# Altium schematic symbol library ToradexMainBoard-V0I1.SCHLIB: 303 symbols (part 5 of 14)
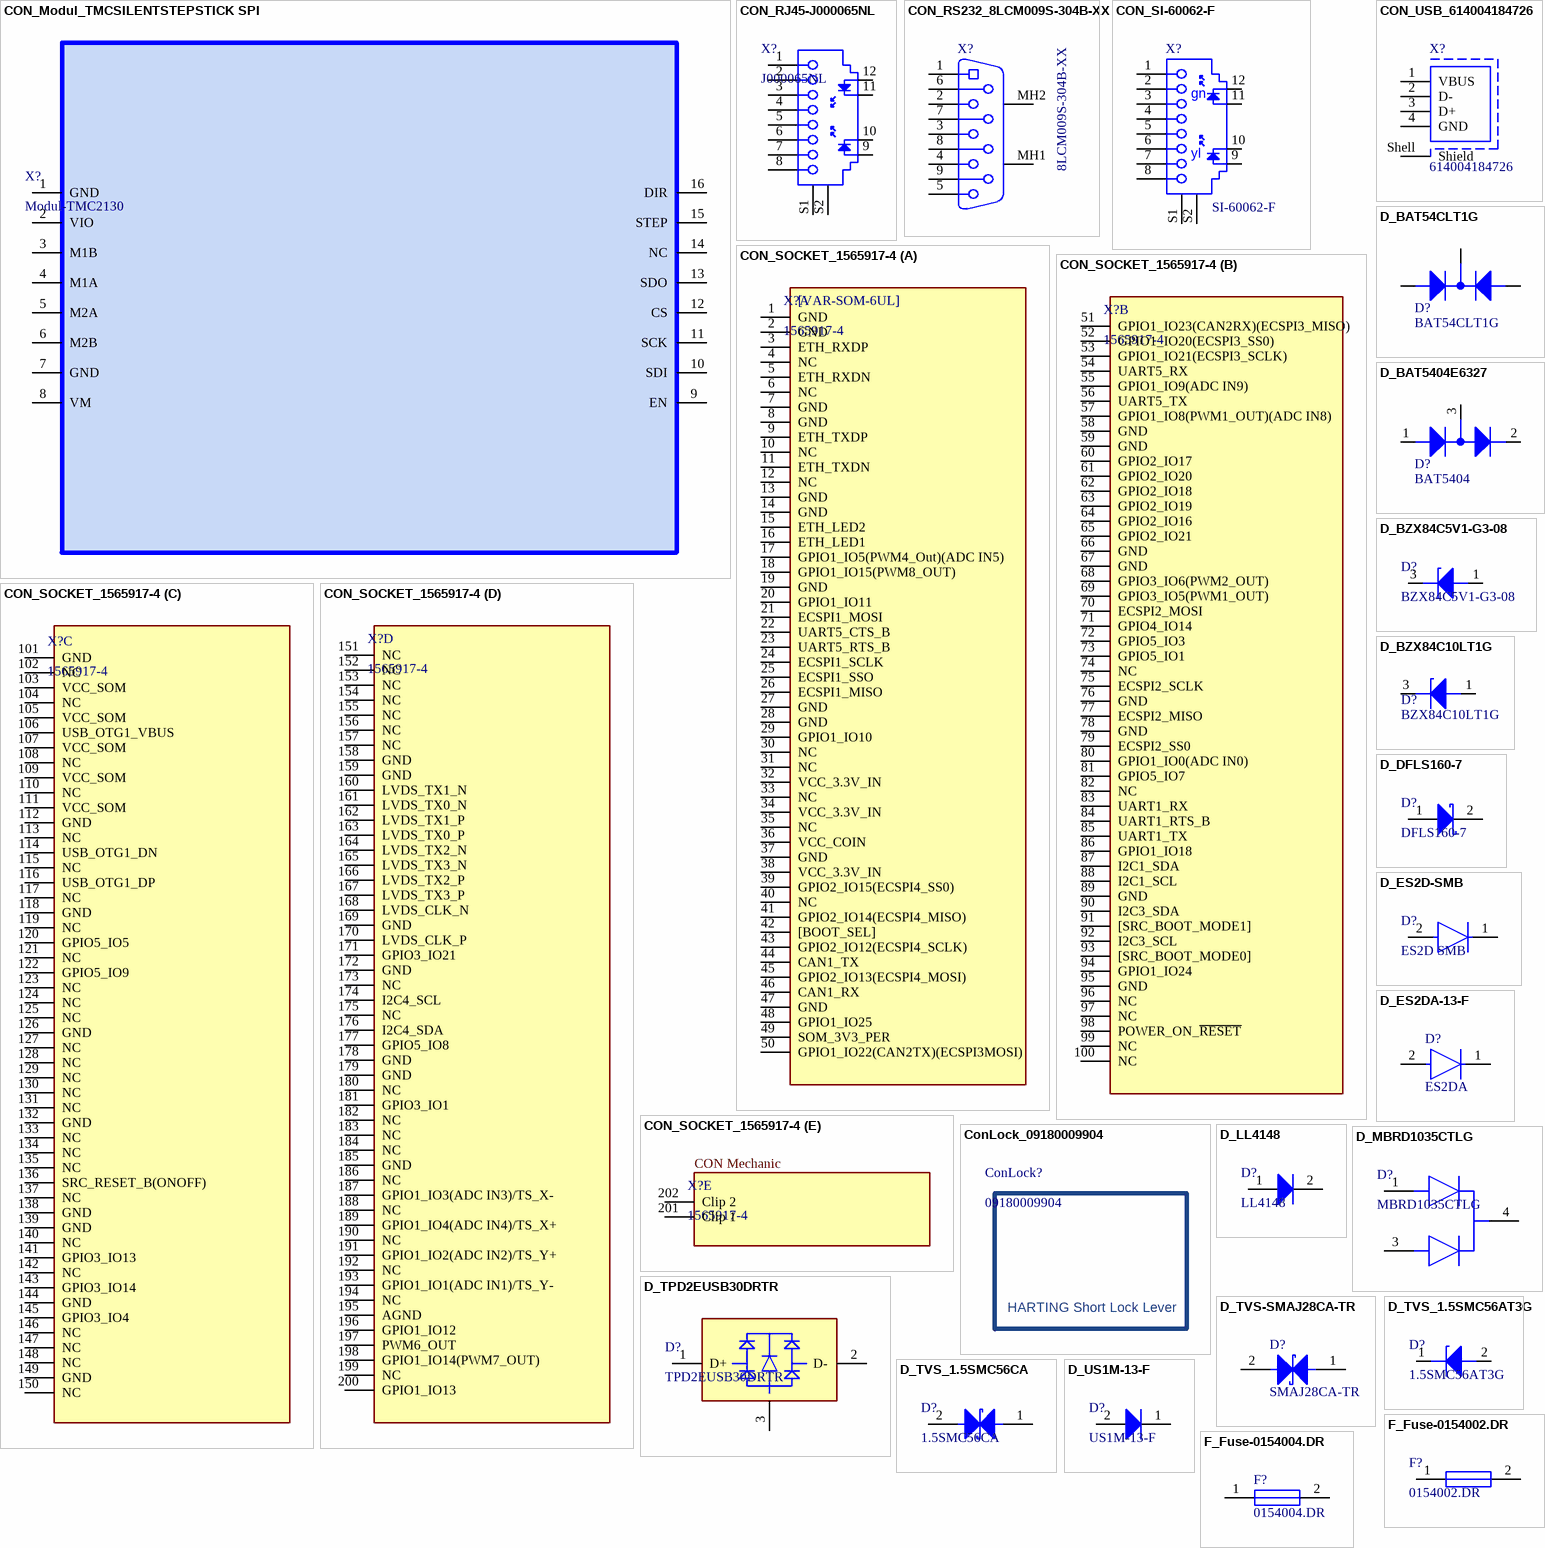
[diagram p19: symbols CON_Modul_TMCSILENTSTEPSTICK SPI to F_Fuse-0154004.DR]

## F_Fuse-0154004.DR
designator F?, comment 0154004.DR
FUSE BRD MNT 4A 125VAC/VDC 2SMD; Manufacturer: Littelfuse; Fuse Blow Speed: Fast; Max Fuse Ac Voltage: 125V; Lead Free: Yes; Device Class L3: unset; Manufacturer Part Number: 0154004.DR; Device Class L2: Fuses; Package: 0154; ComponentLink2Description: Datasheet; Temperature Range Low: -55°C; Temperature Range High: +125°C; Device Class L1: Circuit Protection; Height: 3.81mm; Temperature: -55°C to +125°C; Mouser Description: Surface Mount Fuses Fuseblock w/ fuse 4A OMNI BLOK 154; Automotive: No; Digikey Description: FUSE BRD MNT 4A 125VAC/VDC 2SMD; RoHS: TRUE; Category: Fuse; Fuse Current: 4A; Max Fuse Dc Voltage: 125V; ComponentLink2URL: https://www.littelfuse.com/~/media/electronics/datasheets/fuses/littelfuse_fuse_154_154t_154l_154tl_datasheet.pdf.pdf; Octopart: https://octopart.com/0154004.dr-littelfuse-565861
footprint F_FUSE-154005 (Littlefuse 154005 im Sockel)
pins: 1, 2

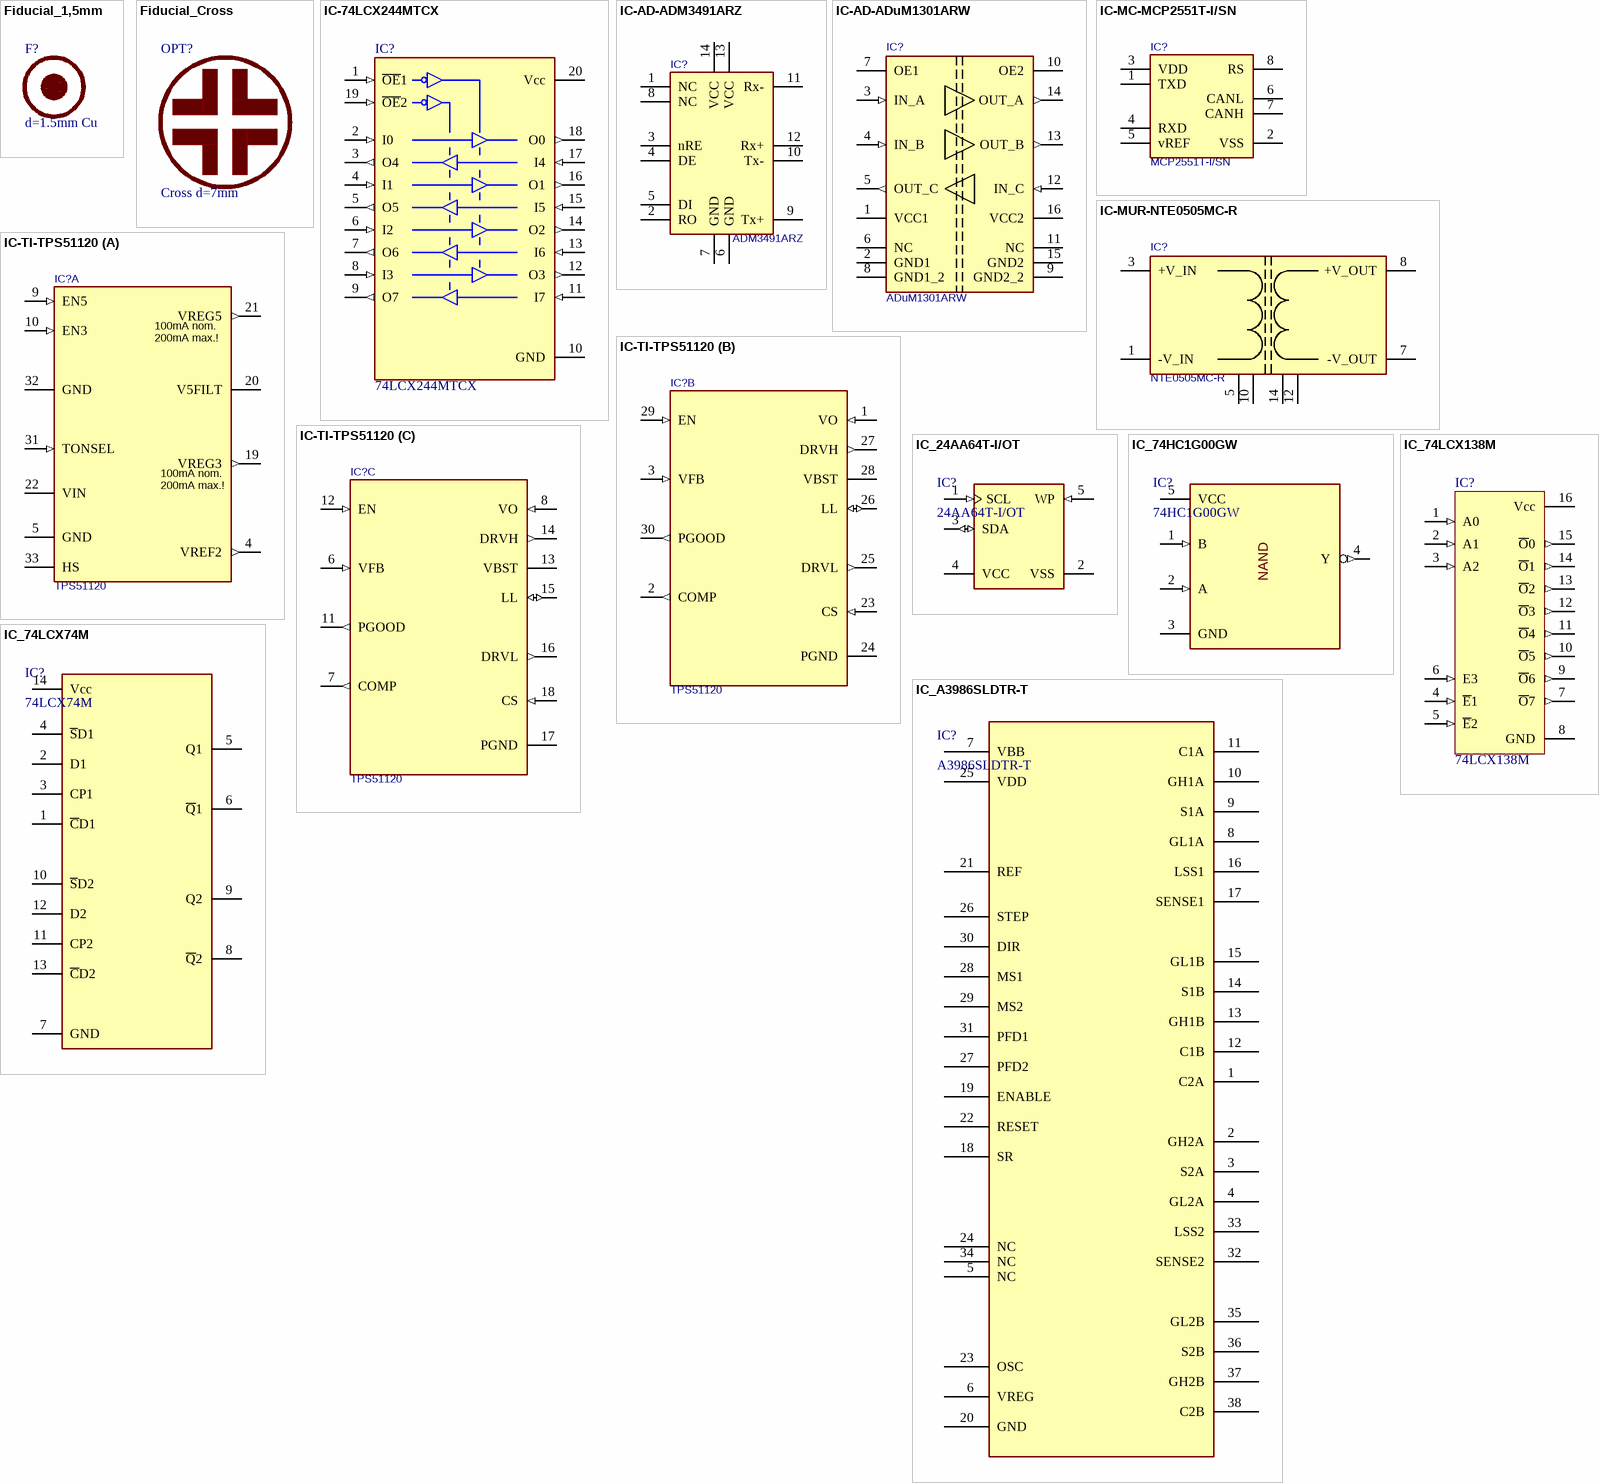
[diagram p7: symbols Fiducial_1,5mm to IC_A3986SLDTR-T]

## Fiducial_1,5mm
designator F?, comment d=1.5mm Cu  (no BOM)
Fiducial Passermarke mit 1.5mm Druchmesser.
footprint Fiducial_1 (d=1.5mm)

## Fiducial_Cross
designator OPT?, comment Cross d=7mm  (no BOM)
Fiducial Cross for Optical alignment.
footprint Fiducial-Cross

## IC-74LCX244MTCX
designator IC?, comment 74LCX244MTCX
IC BUF NON-INVERT 3.6V 20TSSOP; Manufacturer: ON Semiconductor / Fairchild; Min Supply Voltage: 2V; Propagation Delay: 10ns; Logic Function: Buffer,Inverting; High Level Output Current: -24mA; Low Level Output Current: 24mA; Number of Input Lines: 8; Polarity: Non-Inverting; Number of Elements: 2; Number of Bits per Element: 4; Quiescent Current: 10uA; PCBChecked: initials after Checked; Supplier 1: Digi-Key; Manufacturer Part Number: 74LCX244MTCX; RoHS: Yes; Category: Amplifiers - Op Amps, Buffer, Instrumentation; Mount: Surface Mount; Case/Package: TSSOP; Number of Pins: 20; Weight: 0.191g; Contact Plating: Gold; Min Operating Temperature: -40°C; Max Operating Temperature: 85°C; Packaging: Tape and Reel; Package Quantity: 2500; Max Supply Voltage: 3.6V; Number of Output Lines: 8; Number of Bits: 8; Number of Channels: 8; Number of Inputs: 8; Number of Outputs: 8; Turn-On Delay Time: 10ns; Length: 6.5mm; Height: 0.9mm; Width: 4.4mm; Radiation Hardening: No; REACH SVHC: No SVHC; Lead Free: Lead Free; ComponentLink1URL: https://datasheet.ciiva.com/1832/74lcx244-1832336.pdf?src-supplier=Digi-Key; ComponentLink1Description: https://datasheet.ciiva.com/1832/74lcx244-1832336.pdf?src-supplier=Digi-Key; ComponentLink2URL: https://datasheet.ciiva.com/4788/74lcx244-74461-4788000.pdf?src-supplier=Mouser; ComponentLink2Description: https://datasheet.ciiva.com/4788/74lcx244-74461-4788000.pdf?src-supplier=Mouser; ComponentLink3URL: https://datasheet.ciiva.com/34301/869398-34301621.pdf?src-supplier=Jameco; ComponentLink3Description: https://datasheet.ciiva.com/34301/869398-34301621.pdf?src-supplier=Jameco; ComponentLink4URL: https://datasheet.ciiva.com/30475/0900766b80f9a39b-30475003.pdf?src-supplier=RSComponents; ComponentLink4Description: https://datasheet.ciiva.com/30475/0900766b80f9a39b-30475003.pdf?src-supplier=RSComponents; ComponentLink5URL: https://datasheet.ciiva.com/15094/getdatasheetpartid-93942-15094671.pdf?src-supplier=Verical; ComponentLink5Description: https://datasheet.ciiva.com/15094/getdatasheetpartid-93942-15094671.pdf?src-supplier=Verical; ComponentLink6URL: https://datasheet.ciiva.com/1832/74lcx244-1832337.pdf?src-supplier=Digi-Key; ComponentLink6Description: https://datasheet.ciiva.com/1832/74lcx244-1832337.pdf?src-supplier=Digi-Key; ComponentLink7URL: https://datasheet.ciiva.com/7970/1785341-7970981.pdf?src-supplier=Element14; ComponentLink7Description: https://datasheet.ciiva.com/7970/1785341-7970981.pdf?src-supplier=Element14; ComponentLink8URL: https://datasheet.ciiva.com/1832/74lcx244-1832338.pdf?src-supplier=Digi-Key; ComponentLink8Description: https://datasheet.ciiva.com/1832/74lcx244-1832338.pdf?src-supplier=Digi-Key; ComponentLink9URL: https://datasheet.ciiva.com/26228/74lcx244-26228572.pdf?src-supplier=Avnet+Europe; ComponentLink9Description: https://datasheet.ciiva.com/26228/74lcx244-26228572.pdf?src-supplier=Avnet+Europe; ComponentLink10URL: https://datasheet.ciiva.com/16791/74lcx244-16791774.pdf?src-supplier=Future+Electronics; ComponentLink10Description: https://datasheet.ciiva.com/16791/74lcx244-16791774.pdf?src-supplier=Future+Electronics; ComponentLink11URL: https://datasheet.ciiva.com/48702/001251949-da-01-en-ic-buff-dvr-lo-74lcx244mtcx-tssop-20-fsc-48702199.pdf?src-supplier=Conrad; ComponentLink11Description: https://datasheet.ciiva.com/48702/001251949-da-01-en-ic-buff-dvr-lo-74lcx244mtcx-tssop-20-fsc-48702199.pdf?src-supplier=Conrad; Supplier Part Number 1: 74LCX244MTCXCT-ND; Stock 1: 9538; IPC7352C: done; SCHChecked: Initials after checked
footprint 74LCX244MTCX (TSSOP20)
pins: 1 ~{OE}1 (in), 2 I0 (in), 3 O4 (out), 4 I1 (in), 5 O5 (out), 6 I2 (in), 7 O6 (out), 8 I3 (in), 9 O7 (out), 10 GND, 11 I7 (in), 12 O3 (out), 13 I6 (in), 14 O2 (out), 15 I5 (in), 16 O1 (out), 17 I4 (in), 18 O0 (out), 19 ~{OE}2 (in), 20 Vcc

## IC-AD-ADM3491ARZ
designator IC?, comment ADM3491ARZ
Single Transmitter/Receiver RS-422/RS-485 14-Pin SOIC N Tube; Manufacturer Name: Analog Devices; Data Rate: 10Mbps; Operating Supply Voltage: 3.3V; Number of Transmitters: 1; Simplex/Duplex: Full Duplex; Logic Function: Transceiver,Receiver; Nominal Supply Current: 2.2mA; Operating Supply Current: 1uA; Receiver Hysteresis: 50mV; ESD Protection: No; Min Supply Voltage: 3V; Max Supply Voltage: 3.6V; Interface: RS-422,RS-485; Supplier 1: Digi-Key; Supplier Part Number 1: ADM3491ARZ-ND; Manufacturer: Analog Devices; Manufacturer Part Number: ADM3491ARZ; RoHS: Yes; Category: RS-232 / RS-422 / RS-485 Interface ICs; Stock 1: 1903; Case/Package: SOIC; Number of Pins: 14; Weight: 0.011923oz; Contact Plating: Tin,Matte; Min Operating Temperature: -40°C; Max Operating Temperature: 85°C; Package Quantity: 56; Packaging: Rail/Tube; Max Supply Current: 2.2mA; Number of Receivers: 1; Number of Drivers: 1; Number of Transceivers: 1; Number of Channels: 1; Length: 8.75mm; Height: 1.5mm; Width: 4mm; Radiation Hardening: No; Lead Free: Contains Lead; REACH SVHC: No SVHC; ComponentLink1URL: https://datasheet.ciiva.com/1700/adm3483-3485-3488-3490-3491-1700176.pdf?src-supplier=Digi-Key; ComponentLink1Description: https://datasheet.ciiva.com/1700/adm3483-3485-3488-3490-3491-1700176.pdf?src-supplier=Digi-Key; ComponentLink2URL: https://datasheet.ciiva.com/26832/adm3491arz-26832304.pdf?src-supplier=IIIC; ComponentLink2Description: https://datasheet.ciiva.com/26832/adm3491arz-26832304.pdf?src-supplier=IIIC; ComponentLink3URL: https://datasheet.ciiva.com/1147/1519579-1147562.pdf?src-supplier=Element14; ComponentLink3Description: https://datasheet.ciiva.com/1147/1519579-1147562.pdf?src-supplier=Element14; ComponentLink4URL: https://datasheet.ciiva.com/3028/adm3483-3485-3488-3490-3491-3028114.pdf?src-supplier=Avnet; ComponentLink4Description: https://datasheet.ciiva.com/3028/adm3483-3485-3488-3490-3491-3028114.pdf?src-supplier=Avnet; ComponentLink5URL: https://datasheet.ciiva.com/25910/adm3483-3485-3488-3490-3491-25910524.pdf?src-supplier=Avnet+Europe; ComponentLink5Description: https://datasheet.ciiva.com/25910/adm3483-3485-3488-3490-3491-25910524.pdf?src-supplier=Avnet+Europe; Manufacturer Part No.: ADM3491ARZ
footprint SOIC127P600X175-14N (SOIC 14 pin)
pins: 1 NC, 2 RO, 3 nRE, 4 DE, 5 DI, 6 GND, 7 GND, 8 NC, 9 Tx+, 10 Tx-, 11 Rx-, 12 Rx+, 13 VCC, 14 VCC

## IC-AD-ADuM1301ARW
designator IC?, comment ADuM1301ARW
Digital Isolators Digital Triple-CH; Manufacturer Name: Analog Devices; Manufacturer Part Number: ADUM1301ARWZ; Number of Channels: 3; Propagation Delay: 100ns; Min Supply Voltage: 2.7V; Max Supply Voltage: 5.5V; Operating Supply Voltage: 5V; Data Rate: 90Mbps; Channel Type: Unidirectional; Operating Supply Current: 8.2mA; Output Current: 30mA; Isolated Power: No; Pulse Width Distortion (PWD): 40ns; Rise Time: 3ns; Polarity: Bidirectional; Turn-On Delay Time: 32ns; Max Input Current: 10uA; Isolation Voltage: 2.5kV; Supplier 1: Farnell; Supplier Part Number 1: 1226212; Manufacturer: Analog Devices; RoHS: Yes; Category: Interface ICs; Stock 1: 1313; Pricing 1: 1=4,37000, 10=3,52000, 25=3,32000, 50=3,02000, 100=2,72000, 250=2,45000, 500=2,37000, 1000=2,02000 (EUR); Case/Package: SOIC; Number of Pins: 16; Weight: 0.023492oz; Min Operating Temperature: -40°C; Max Operating Temperature: 125°C; Packaging: Rail/Tube; Type: General Purpose; Voltage: 5V; Length: 10.5mm; Width: 7.6mm; Depth: 2.35mm; Lead Free: Contains Lead; REACH SVHC: No SVHC; ComponentLink1URL: https://datasheet.ciiva.com/1147/1610666-1147808.pdf?src-supplier=Element14; ComponentLink1Description: https://datasheet.ciiva.com/1147/1610666-1147808.pdf?src-supplier=Element14; ComponentLink2URL: https://datasheet.ciiva.com/15119/getdatasheetpartid-139593-15119409.pdf?src-supplier=Verical; ComponentLink2Description: https://datasheet.ciiva.com/15119/getdatasheetpartid-139593-15119409.pdf?src-supplier=Verical; ComponentLink3URL: https://datasheet.ciiva.com/19453/1805177-19453928.pdf?src-supplier=Jameco; ComponentLink3Description: https://datasheet.ciiva.com/19453/1805177-19453928.pdf?src-supplier=Jameco; ComponentLink4URL: https://datasheet.ciiva.com/2082/adum1300-1301-2082305.pdf?src-supplier=Digi-Key; ComponentLink4Description: https://datasheet.ciiva.com/2082/adum1300-1301-2082305.pdf?src-supplier=Digi-Key; ComponentLink5URL: https://datasheet.ciiva.com/15367/adum1300-1301-279320-15367740.pdf?src-supplier=Mouser; ComponentLink5Description: https://datasheet.ciiva.com/15367/adum1300-1301-279320-15367740.pdf?src-supplier=Mouser; Manufacturer Part No.: ADuM1301ARW
footprint T_AD_ADuM1300ARW (SOIC _W 16 pin)
pins: 1 VCC1, 2 GND1 (power), 3 IN_A (in), 4 IN_B (in), 5 OUT_C (out), 6 NC, 7 OE1, 8 GND1_2 (power), 9 GND2_2 (power), 10 OE2, 11 NC, 12 IN_C (in), 13 OUT_B (out), 14 OUT_A (out), 15 GND2 (power), 16 VCC2

## IC-MC-MCP2551T-I/SN
designator IC?, comment MCP2551T-I/SN
CAN Interface IC Hi Spd CAN Transceiv; Manufacturer Name: Microchip; Data Rate: 1Mbps; Max Supply Voltage: 5.5V; Min Supply Voltage: 4.5V; Operating Supply Voltage: 5V; Nominal Supply Current: 75mA; Number of Transmit Buffers: 1; Interface: CAN,Serial; Logic Function: Transceiver; Supplier 1: Mouser; Supplier Part Number 1: 579-MCP2551T-I/SN; Manufacturer: Microchip; Manufacturer Part Number: MCP2551T-I/SN; RoHS: Yes; Category: Interface ICs; Stock 1: 34495; Pricing 1: 1=1,02000, 10=1,02000, 25=0,85000, 100=0,82500, 250=0,82500, 500=0,82500 (USD); Mount: Surface Mount; Case/Package: SOIC; Number of Pins: 8; Min Operating Temperature: -40°C; Max Operating Temperature: 85°C; Packaging: Tape and Reel; Number of Receive Buffers: 1; Package Quantity: 3300; Number of Receivers: 1; Max Supply Current: 75mA; Number of Transceivers: 1; Number of Drivers: 1; Length: 4.9mm; Height: 1.5mm; Width: 3.9mm; Radiation Hardening: No; REACH SVHC: No SVHC; Lead Free: Lead Free; ComponentLink1URL: https://datasheet.ciiva.com/1699/21667f-1699938.pdf?src-supplier=Digi-Key; ComponentLink1Description: https://datasheet.ciiva.com/1699/21667f-1699938.pdf?src-supplier=Digi-Key; ComponentLink2URL: https://datasheet.ciiva.com/7650/21667f-7650934.pdf?src-supplier=Element14; ComponentLink2Description: https://datasheet.ciiva.com/7650/21667f-7650934.pdf?src-supplier=Element14; ComponentLink3URL: https://datasheet.ciiva.com/46381/657417-46381830.pdf?src-supplier=Element14; ComponentLink3Description: https://datasheet.ciiva.com/46381/657417-46381830.pdf?src-supplier=Element14; ComponentLink4URL: https://datasheet.ciiva.com/14152/mcp2551-eng-tds-2-14152541.pdf?src-supplier=Distrelec; ComponentLink4Description: https://datasheet.ciiva.com/14152/mcp2551-eng-tds-2-14152541.pdf?src-supplier=Distrelec; ComponentLink5URL: https://datasheet.ciiva.com/16199/filehandler-aspxddocname-en011797-16199501.pdf?src-supplier=Future+Electronics; ComponentLink5Description: https://datasheet.ciiva.com/16199/filehandler-aspxddocname-en011797-16199501.pdf?src-supplier=Future+Electronics; ComponentLink6URL: https://datasheet.ciiva.com/17649/jp011797-17649037.pdf?src-supplier=Avnet+Europe; ComponentLink6Description: https://datasheet.ciiva.com/17649/jp011797-17649037.pdf?src-supplier=Avnet+Europe; Manufacturer Part No.: MCP2551T-I/SN
footprint SOIC127P600X173-8N
pins: 1 TXD, 2 VSS, 3 VDD, 4 RXD, 5 vREF, 6 CANL, 7 CANH, 8 RS

## IC-MUR-NTE0505MC-R
designator IC?, comment NTE0505MC-R
Module DC-DC 1-OUT 5V 0.2A 1W 8-Pin SMD T/R; Manufacturer Name: Murata; Output Current: 200mA; Number of Outputs: 1; Min Input Voltage: 4.5V; Efficiency: 68%; Isolation: Isolated; Isolation Voltage: 1kV; Max Input Voltage: 5.5V; Supplier 1: Farnell; Supplier Part Number 1: 2946813; Manufacturer: Murata; Manufacturer Part Number: NTE0505MC-R; RoHS: Yes; Category: Board Mount Modules; Stock 1: 825; Pricing 1: 1=6,72000, 10=6,67000, 25=6,44000, 100=6,11000, 150=5,71000 (EUR); Mount: Surface Mount; Case/Package: SMD/SMT; Number of Pins: 8; Min Operating Temperature: -40°C; Max Operating Temperature: 85°C; Output Voltage: 5V; Output Power: 1W; Packaging: Tape and Reel; Package Quantity: 1; Nominal Input Voltage: 5V; Max Power Dissipation: 1W; Voltage - Output 1: 5V; Max Output Current: 200mA; Length: 12.7mm; Height: 0.26inch; Width: 0.3inch; Depth: 7.7mm; Radiation Hardening: No; Lead Free: Lead Free; ComponentLink1URL: https://datasheet.ciiva.com/26941/getdatasheetpartid-387882-26941573.pdf?src-supplier=Verical; ComponentLink1Description: https://datasheet.ciiva.com/26941/getdatasheetpartid-387882-26941573.pdf?src-supplier=Verical; ComponentLink2URL: https://datasheet.ciiva.com/3241/kdc-nte-3241461.pdf?src-supplier=Avnet; ComponentLink2Description: https://datasheet.ciiva.com/3241/kdc-nte-3241461.pdf?src-supplier=Avnet; ComponentLink3URL: https://datasheet.ciiva.com/4653/kdc-nte-28292-4653512.pdf?src-supplier=Mouser; ComponentLink3Description: https://datasheet.ciiva.com/4653/kdc-nte-28292-4653512.pdf?src-supplier=Mouser; ComponentLink4URL: https://datasheet.ciiva.com/6226/kdc-nte-6226956.pdf?src-supplier=Digi-Key; ComponentLink4Description: https://datasheet.ciiva.com/6226/kdc-nte-6226956.pdf?src-supplier=Digi-Key; ComponentLink5URL: https://datasheet.ciiva.com/25914/kdc-nte-25914719.pdf?src-supplier=Avnet+Europe; ComponentLink5Description: https://datasheet.ciiva.com/25914/kdc-nte-25914719.pdf?src-supplier=Avnet+Europe; ComponentLink6URL: https://datasheet.ciiva.com/16472/kdc-nte-16472411.pdf?src-supplier=Future+Electronics; ComponentLink6Description: https://datasheet.ciiva.com/16472/kdc-nte-16472411.pdf?src-supplier=Future+Electronics; ComponentLink7URL: https://datasheet.ciiva.com/6220/kdc-nte-6220877.pdf?src-supplier=Digi-Key; ComponentLink7Description: https://datasheet.ciiva.com/6220/kdc-nte-6220877.pdf?src-supplier=Digi-Key; ComponentLink8URL: https://datasheet.ciiva.com/6220/kdc-nte-6220878.pdf?src-supplier=Digi-Key; ComponentLink8Description: https://datasheet.ciiva.com/6220/kdc-nte-6220878.pdf?src-supplier=Digi-Key; Manufacturer Part No.: NTE0505MC-R
footprint T_MURATA_NTE0505MC-R (Isolated DC/DC converter)
pins: 1 -V_IN (power), 3 +V_IN (power), 5 NC, 7 -V_OUT (power), 8 +V_OUT (power), 10 NC, 12 NC, 14 NC

## IC-TI-TPS51120
designator IC?, comment TPS51120
IC REG CTRLR BUCK 32QFN; Manufacturer Name: Texas Instruments; Manufacturer Part Number: TPS51120RHBT; Output Voltage: 5.5V; Number of Outputs: 2; Output Current: 20A; Switching Frequency: 580kHz; Max Input Voltage: 28V; Min Input Voltage: 4.5V; Quiescent Current: 750uA; Duty Cycle: 88%; Min Output Voltage: 1.05V; Supplier 1: Farnell; Supplier Part Number 1: 3008676; Manufacturer: Texas Instruments; RoHS: Yes; Category: Voltage Regulators - Switching; Stock 1: 499; Pricing 1: 1=3,26000, 10=2,60000, 25=2,46000, 50=2,24000, 100=2,02000, 250=1,82000, 500=1,74000, 1000=1,53000 (EUR); Case/Package: VQFN EP; Number of Pins: 32; Weight: 0.002533oz; Min Operating Temperature: -40°C; Max Operating Temperature: 85°C; Package Quantity: 250; Packaging: Tape and Reel; Max Output Current: 20A; Max Frequency: 580kHz; Max Output Voltage: 5.5V; Max Duty Cycle: 88%; Operating Supply Current: 750uA; Operating Supply Voltage: 5.5V; Length: 5mm; Height: 0.9mm; Width: 5mm; Radiation Hardening: No; Lead Free: Lead Free; ComponentLink1URL: https://datasheet.ciiva.com/15113/getdatasheetpartid-48147-15113535.pdf?src-supplier=Verical; ComponentLink1Description: https://datasheet.ciiva.com/15113/getdatasheetpartid-48147-15113535.pdf?src-supplier=Verical; ComponentLink2URL: https://datasheet.ciiva.com/26910/tps51120rhbt-26910343.pdf?src-supplier=IIIC; ComponentLink2Description: https://datasheet.ciiva.com/26910/tps51120rhbt-26910343.pdf?src-supplier=IIIC; ComponentLink3URL: https://datasheet.ciiva.com/26250/tps51120-26250057.pdf?src-supplier=Avnet+Europe; ComponentLink3Description: https://datasheet.ciiva.com/26250/tps51120-26250057.pdf?src-supplier=Avnet+Europe; ComponentLink4URL: https://datasheet.ciiva.com/2077/tps51120-2077597.pdf?src-supplier=Digi-Key; ComponentLink4Description: https://datasheet.ciiva.com/2077/tps51120-2077597.pdf?src-supplier=Digi-Key; ComponentLink5URL: https://datasheet.ciiva.com/2077/tps51120-2077598.pdf?src-supplier=Digi-Key; ComponentLink5Description: https://datasheet.ciiva.com/2077/tps51120-2077598.pdf?src-supplier=Digi-Key; ComponentLink6URL: https://datasheet.ciiva.com/2077/tps51120-2077599.pdf?src-supplier=Digi-Key; ComponentLink6Description: https://datasheet.ciiva.com/2077/tps51120-2077599.pdf?src-supplier=Digi-Key; Manufacturer Part No.: TPS51120
footprint QFN50P500X500X100-33N
part A pins: 4 VREF2 (out), 5 GND (power), 9 EN5 (in), 10 EN3 (in), 19 VREG3 (out), 20 V5FILT (power), 21 VREG5 (out), 22 VIN (power), 31 TONSEL (in), 32 GND (power), 33 HS
part B pins: 1 VO (in), 2 COMP (out), 3 VFB (in), 23 CS (in), 24 PGND (power), 25 DRVL (out), 26 LL (io), 27 DRVH (out), 28 VBST (power), 29 EN (in), 30 PGOOD (out)
part C pins: 6 VFB (in), 7 COMP (out), 8 VO (in), 11 PGOOD (out), 12 EN (in), 13 VBST, 14 DRVH (out), 15 LL (io), 16 DRVL (out), 17 PGND (power), 18 CS (in)
part A text: 100mA nom.; 200mA max.!

## IC_24AA64T-I/OT
designator IC?, comment 24AA64T-I/OT
MICROCHIP - 24AA64T-I/OT - SERIAL EEPROM, 64KBIT, 400KHZ, SOT-23-5; Min Supply Voltage: 1.7V; Max Supply Voltage: 5.5V; Interface: I2C,Serial; Access Time: 3500ns; Nominal Supply Current: 3mA; Density: 64Kb; Operating Supply Voltage: 5V; Number of Words: 8000; Max Frequency: 100kHz; Supplier 1: Farnell; Manufacturer: Microchip; Manufacturer Part Number: 24AA64T-I/OT; RoHS: Yes; Category: EEPROM; Stock 1: 5449; Pricing 1: 1=0,31400, 10=0,31000, 25=0,30500, 50=0,29700, 100=0,28800 (EUR); Mount: Surface Mount; Case/Package: SOT-23; Number of Pins: 5; Contact Plating: Tin,Matte; Min Operating Temperature: -40°C; Max Operating Temperature: 85°C; Packaging: Tape and Reel; Package Quantity: 3000; Frequency: 400kHz; Memory Size: 64Kb; Memory Type: EEPROM; Length: 3.1mm; Width: 1.8mm; Height: 1.3mm; Radiation Hardening: No; REACH SVHC: No SVHC; Lead Free: Lead Free; ComponentLink1URL: https://datasheet.ciiva.com/15123/getdatasheetpartid-768965-15123755.pdf?src-supplier=Verical; ComponentLink1Description: https://datasheet.ciiva.com/15123/getdatasheetpartid-768965-15123755.pdf?src-supplier=Verical; ComponentLink2URL: https://datasheet.ciiva.com/1154/1688094-1154864.pdf?src-supplier=Element14; ComponentLink2Description: https://datasheet.ciiva.com/1154/1688094-1154864.pdf?src-supplier=Element14; ComponentLink3URL: https://datasheet.ciiva.com/4859/21189l-21989-4859319.pdf?src-supplier=Mouser; ComponentLink3Description: https://datasheet.ciiva.com/4859/21189l-21989-4859319.pdf?src-supplier=Mouser; ComponentLink4URL: https://datasheet.ciiva.com/3186/21189r-3186219.pdf?src-supplier=Avnet; ComponentLink4Description: https://datasheet.ciiva.com/3186/21189r-3186219.pdf?src-supplier=Avnet; ComponentLink5URL: https://datasheet.ciiva.com/16309/filehandler-aspxddocname-en011843-16309727.pdf?src-supplier=Future+Electronics; ComponentLink5Description: https://datasheet.ciiva.com/16309/filehandler-aspxddocname-en011843-16309727.pdf?src-supplier=Future+Electronics; ComponentLink6URL: https://datasheet.ciiva.com/41454/001085254-da-01-en-ic-eeprom-64kb-24aa64t-i-ot-sot-23-5-mcp-41454950.pdf?src-supplier=Conrad; ComponentLink6Description: https://datasheet.ciiva.com/41454/001085254-da-01-en-ic-eeprom-64kb-24aa64t-i-ot-sot-23-5-mcp-41454950.pdf?src-supplier=Conrad; Supplier Part Number 1: 2101260
footprint EEPROM_SOT23
pins: 1 SCL (in), 2 VSS (power), 3 SDA (io), 4 VCC (power), 5 WP (in)

## IC_74HC1G00GW
designator IC?, comment 74HC1G00GW
NXP         74HC1G00GW             NAND Gate, HC Family, 1 Gate, 2 Input, 2.6 mA, 2V to 6V, SOT-353-5; Manufacturer: NXP Semiconductors; High Level Output Current: -2.6mA; Low Level Output Current: 2.6mA; Propagation Delay: 135ns; Number of Inputs: 2; Number of Elements: 1; Schmitt Trigger Input: No; Supplier 1: Farnell; Manufacturer Part Number: 74HC1G00GW; RoHS: Yes; Category: Logic ICs; Mount: Surface Mount; Case/Package: SOT-353; Number of Pins: 5; Min Operating Temperature: -40°C; Max Operating Temperature: 125°C; Min Supply Voltage: 2V; Max Supply Voltage: 6V; Logic Function: NAND GATE; Packaging: Cut Tape; Output Current: 2.6mA; Length: 2.25mm; Width: 1.35mm; Height: 1mm; REACH SVHC: No SVHC; ComponentLink1URL: https://datasheet.ciiva.com/1158/1758112-1158288.pdf?src-supplier=Farnell; ComponentLink1Description: https://datasheet.ciiva.com/1158/1758112-1158288.pdf?src-supplier=Farnell; ComponentLink2URL: https://datasheet.ciiva.com/30474/0900766b81200a74-30474858.pdf?src-supplier=RSComponents; ComponentLink2Description: https://datasheet.ciiva.com/30474/0900766b81200a74-30474858.pdf?src-supplier=RSComponents; ComponentLink3URL: https://datasheet.ciiva.com/1507/1758112-1507874.pdf?src-supplier=Element14; ComponentLink3Description: https://datasheet.ciiva.com/1507/1758112-1507874.pdf?src-supplier=Element14; ComponentLink4URL: https://datasheet.ciiva.com/1507/1758112-1507875.pdf?src-supplier=Element14; ComponentLink4Description: https://datasheet.ciiva.com/1507/1758112-1507875.pdf?src-supplier=Element14; Supplier Part Number 1: 1085249RL
footprint 74HC1G00GW_SOT353-5
pins: 1 B (in) "Power Supply Input: 2.7V to 26.4V", 2 A (in) "Power Supply Input: 2.7V to 26.4V", 3 GND (power) "Power Supply Input: 2.7V to 26.4V", 4 Y (out) "Power Supply Input: 2.7V to 26.4V", 5 VCC (power) "Power Supply Input: 2.7V to 26.4V"
text: NAND

## IC_74LCX74M
designator IC?, comment 74LCX74M
Flip Flop D-Type Pos-Edge 2-Element 14-Pin SOIC N Rail; Manufacturer: ON Semiconductor / Fairchild; Logic Function: AND GATE,D-Type,Flip-Flop; Polarity: Non-Inverting; Number of Circuits: 2; High Level Output Current: -24mA; Low Level Output Current: 24mA; Max Supply Voltage: 3.6V; Min Supply Voltage: 2V; Propagation Delay: 8ns; Frequency: 150MHz; Number of Input Lines: 4; Clock Edge Trigger Type: Positive Edge; Turn-On Delay Time: 7ns; Number of Bits per Element: 1; Quiescent Current: 10uA; Supplier 1: Farnell; Manufacturer Part Number: 74LCX74M; RoHS: Yes; Category: Latches and Flip Flops; Stock 1: 1112; Pricing 1: 1=0,60200, 10=0,46400, 100=0,30900, 500=0,26200, 1000=0,20200, 2500=0,17200, 5000=0,16900 (EUR); Mount: Surface Mount; Case/Package: SOIC; Number of Pins: 14; Weight: 0.008501oz; Contact Plating: Tin,Matte; Min Operating Temperature: -40°C; Max Operating Temperature: 85°C; Packaging: Rail/Tube; Number of Bits: 2; Number of Output Lines: 2; Package Quantity: 55; Number of Elements: 2; Output Current: 24mA; Max Frequency: 150MHz; Number of Gates: 2; Termination: SMD/SMT; Number of Inputs: 1; Length: 8.75mm; Width: 4mm; Height: 1.5mm; Radiation Hardening: No; Lead Free: Lead Free; REACH SVHC: No SVHC; ComponentLink1URL: https://datasheet.ciiva.com/34301/869574-34301622.pdf?src-supplier=Jameco; ComponentLink1Description: https://datasheet.ciiva.com/34301/869574-34301622.pdf?src-supplier=Jameco; ComponentLink2URL: https://datasheet.ciiva.com/15091/getdatasheetpartid-69027-15091243.pdf?src-supplier=Verical; ComponentLink2Description: https://datasheet.ciiva.com/15091/getdatasheetpartid-69027-15091243.pdf?src-supplier=Verical; ComponentLink3URL: https://datasheet.ciiva.com/6621/74lcx74-6621328.pdf?src-supplier=Digi-Key; ComponentLink3Description: https://datasheet.ciiva.com/6621/74lcx74-6621328.pdf?src-supplier=Digi-Key; ComponentLink4URL: https://datasheet.ciiva.com/1507/1786097-1507403.pdf?src-supplier=Element14; ComponentLink4Description: https://datasheet.ciiva.com/1507/1786097-1507403.pdf?src-supplier=Element14; ComponentLink5URL: https://datasheet.ciiva.com/3304/74lcx74-3304974.pdf?src-supplier=Avnet; ComponentLink5Description: https://datasheet.ciiva.com/3304/74lcx74-3304974.pdf?src-supplier=Avnet; ComponentLink6URL: https://datasheet.ciiva.com/26055/74lcx74-26055131.pdf?src-supplier=Avnet+Europe; ComponentLink6Description: https://datasheet.ciiva.com/26055/74lcx74-26055131.pdf?src-supplier=Avnet+Europe; ComponentLink7URL: https://datasheet.ciiva.com/1507/1786097-1507404.pdf?src-supplier=Element14; ComponentLink7Description: https://datasheet.ciiva.com/1507/1786097-1507404.pdf?src-supplier=Element14; ComponentLink8URL: https://datasheet.ciiva.com/17109/74lcx74-17109709.pdf?src-supplier=Future+Electronics; ComponentLink8Description: https://datasheet.ciiva.com/17109/74lcx74-17109709.pdf?src-supplier=Future+Electronics; ComponentLink9URL: https://datasheet.ciiva.com/48704/001251993-da-01-en-ic-d-type-pos-trg-d-74lcx74m-soic-14-fsc-48704236.pdf?src-supplier=Conrad; ComponentLink9Description: https://datasheet.ciiva.com/48704/001251993-da-01-en-ic-d-type-pos-trg-d-74lcx74m-soic-14-fsc-48704236.pdf?src-supplier=Conrad; Supplier Part Number 1: 1013791
footprint 74LCX74M_SOIC14 (SOIC, 14-Leads, Body 8.75x4mm, Pitch 1.27mm, IPC Low Density)
pins: 1 ~{C}D1, 2 D1, 3 CP1, 4 ~{S}D1, 5 Q1, 6 ~{Q}1, 7 GND, 8 ~{Q}2, 9 Q2, 10 ~{S}D2, 11 CP2, 12 D2, 13 ~{C}D2, 14 Vcc

## IC_74LCX138M
designator IC?, comment 74LCX138M
ON SEMICONDUCTOR - 74LCX138M - 74LCX CMOS SMD 74LCX138,SOIC16; Manufacturer: ON Semiconductor / Fairchild; Max Supply Voltage: 3.6V; Min Supply Voltage: 2V; Number of Outputs: 8; Logic Function: Demultiplexer,Decoder,Demux; Number of Input Lines: 1; High Level Output Current: -24mA; Low Level Output Current: 24mA; Supply Type: Single; Number of Inputs: 3; Propagation Delay: 8.4ns; Polarity: Inverting; Quiescent Current: 10uA; Turn-On Delay Time: 7ns; Supplier 1: Digi-Key; Manufacturer Part Number: 74LCX138M; RoHS: Yes; Category: Decoders, Multiplexers; Stock 1: 25; Pricing 1: 1=0,63000, 10=0,54200, 25=0,50560, 100=0,40430, 250=0,37544, 500=0,31768, 1000=0,24548, 2500=0,22382, 5000=0,20938 (USD); Mount: Surface Mount; Case/Package: SOIC; Number of Pins: 16; Weight: 0.005044oz; Contact Plating: Tin,Matte; Min Operating Temperature: -40°C; Max Operating Temperature: 85°C; Packaging: Rail/Tube; Number of Output Lines: 8; Package Quantity: 48; Number of Elements: 1; Independent Circuits: 1; Termination: SMD/SMT; Length: 10mm; Height: 1.5mm; Width: 4mm; Radiation Hardening: No; Lead Free: Lead Free; REACH SVHC: No SVHC; ComponentLink1URL: https://datasheet.ciiva.com/1888/74lcx138-1888208.pdf?src-supplier=Digi-Key; ComponentLink1Description: https://datasheet.ciiva.com/1888/74lcx138-1888208.pdf?src-supplier=Digi-Key; ComponentLink2URL: https://datasheet.ciiva.com/4807/74lcx138-91098-4807808.pdf?src-supplier=Mouser; ComponentLink2Description: https://datasheet.ciiva.com/4807/74lcx138-91098-4807808.pdf?src-supplier=Mouser; ComponentLink3URL: https://datasheet.ciiva.com/15092/getdatasheetpartid-70089-15092214.pdf?src-supplier=Verical; ComponentLink3Description: https://datasheet.ciiva.com/15092/getdatasheetpartid-70089-15092214.pdf?src-supplier=Verical; ComponentLink4URL: https://datasheet.ciiva.com/34302/1209228-34302087.pdf?src-supplier=Jameco; ComponentLink4Description: https://datasheet.ciiva.com/34302/1209228-34302087.pdf?src-supplier=Jameco; ComponentLink5URL: https://datasheet.ciiva.com/1507/30103-1507085.pdf?src-supplier=Element14; ComponentLink5Description: https://datasheet.ciiva.com/1507/30103-1507085.pdf?src-supplier=Element14; ComponentLink6URL: https://datasheet.ciiva.com/16952/74lcx138-16952843.pdf?src-supplier=Future+Electronics; ComponentLink6Description: https://datasheet.ciiva.com/16952/74lcx138-16952843.pdf?src-supplier=Future+Electronics; ComponentLink7URL: https://datasheet.ciiva.com/26207/74lcx138-26207931.pdf?src-supplier=Avnet+Europe; ComponentLink7Description: https://datasheet.ciiva.com/26207/74lcx138-26207931.pdf?src-supplier=Avnet+Europe; ComponentLink8URL: https://datasheet.ciiva.com/1507/1785338-1507084.pdf?src-supplier=Element14; ComponentLink8Description: https://datasheet.ciiva.com/1507/1785338-1507084.pdf?src-supplier=Element14; ComponentLink9URL: https://datasheet.ciiva.com/48704/001251915-da-01-en-decoder-demux-1of8-74lcx138m-soic-16-fsc-48704475.pdf?src-supplier=Conrad; ComponentLink9Description: https://datasheet.ciiva.com/48704/001251915-da-01-en-decoder-demux-1of8-74lcx138m-soic-16-fsc-48704475.pdf?src-supplier=Conrad; Supplier Part Number 1: 74LCX138M-ND; Supplier 2: Farnell; Supplier Part Number 2: 1013777
footprint 75LCX138 (SOIC 16 pin)
pins: 1 A0 (in), 2 A1 (in), 3 A2 (in), 4 ~{E}1 (in), 5 ~{E}2 (in), 6 E3 (in), 7 ~{O}7 (out), 8 GND, 9 ~{O}6 (out), 10 ~{O}5 (out), 11 ~{O}4 (out), 12 ~{O}3 (out), 13 ~{O}2 (out), 14 ~{O}1 (out), 15 ~{O}0 (out), 16 Vcc

## IC_A3986SLDTR-T
designator IC?, comment A3986SLDTR-T
footprint A3986_TSSOP38 (SOP, 38-Leads, Body 9.8x4.5mm, Pitch 0.5mm, IPC High Density)
pins: 1 C2A, 2 GH2A, 3 S2A, 4 GL2A, 5 NC, 6 VREG, 7 VBB, 8 GL1A, 9 S1A, 10 GH1A, 11 C1A, 12 C1B, 13 GH1B, 14 S1B, 15 GL1B, 16 LSS1, 17 SENSE1, 18 SR, 19 ENABLE, 20 GND, 21 REF, 22 RESET, 23 OSC, 24 NC, 25 VDD, 26 STEP, 27 PFD2, 28 MS1, 29 MS2, 30 DIR, 31 PFD1, 32 SENSE2, 33 LSS2, 34 NC, 35 GL2B, 36 S2B, 37 GH2B, 38 C2B

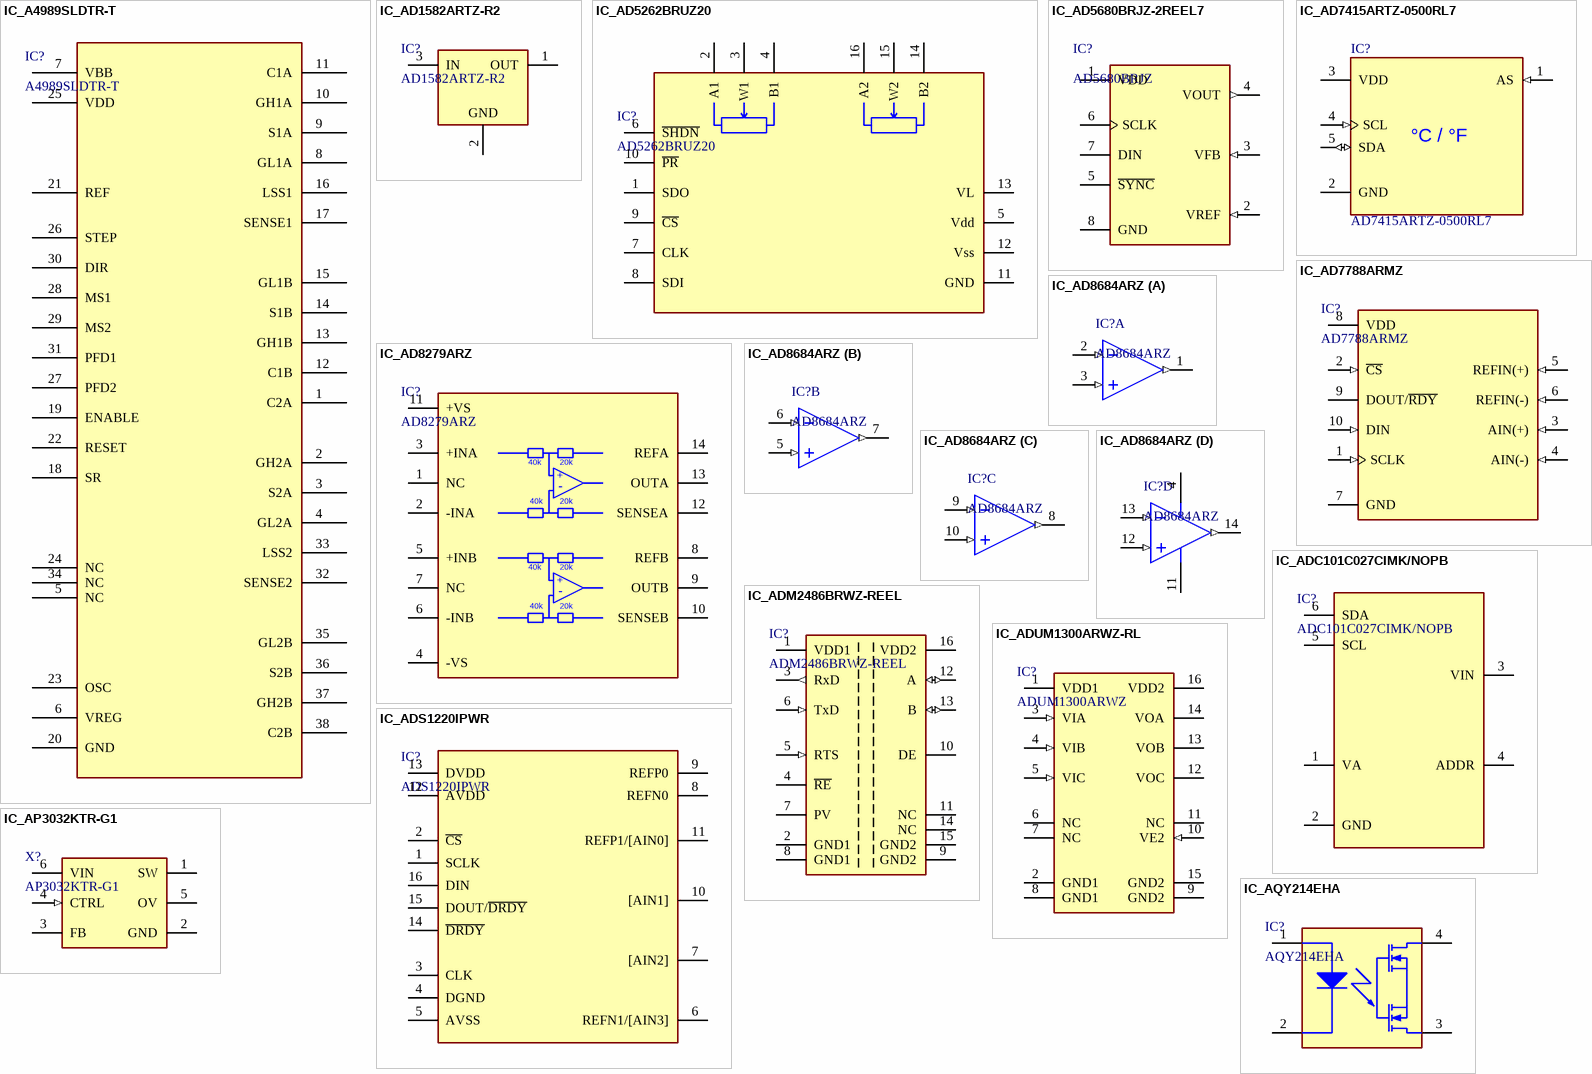
[diagram p8: symbols IC_A4989SLDTR-T to IC_AQY214EHA]

## IC_A4989SLDTR-T
designator IC?, comment A4989SLDTR-T
footprint A4989_TSSOP38 (SOP, 38-Leads, Body 9.8x4.5mm, Pitch 0.5mm, IPC High Density)
pins: 1 C2A, 2 GH2A, 3 S2A, 4 GL2A, 5 NC, 6 VREG, 7 VBB, 8 GL1A, 9 S1A, 10 GH1A, 11 C1A, 12 C1B, 13 GH1B, 14 S1B, 15 GL1B, 16 LSS1, 17 SENSE1, 18 SR, 19 ENABLE, 20 GND, 21 REF, 22 RESET, 23 OSC, 24 NC, 25 VDD, 26 STEP, 27 PFD2, 28 MS1, 29 MS2, 30 DIR, 31 PFD1, 32 SENSE2, 33 LSS2, 34 NC, 35 GL2B, 36 S2B, 37 GH2B, 38 C2B

## IC_AD1582ARTZ-R2
designator IC?, comment AD1582ARTZ-R2
ANALOG DEVICES         AD1582ARTZ-R2             Voltage Reference, Precision, Series - Fixed, AD1582 Series, 2.5V, SOT-23-3; Tolerance: 0.8%; Number of Channels: 1; Max Input Voltage: 12V; Max Output Current: 5mA; Nominal Supply Current: 70uA; Min Input Voltage: 2.7V; Temperature Coefficient: 100ppm/°C; Reference Type: Series,Fixed; Supplier 1: Farnell; Manufacturer: Analog Devices; Manufacturer Part Number: AD1582ARTZ-R2; RoHS: Yes; Category: Voltage References; Pricing 1: 1=1,84000, 25=1,45000, 50=1,39000, 100=1,32000, 250=1,19000, 500=1,04000, 1000=1,02000, 2500=0,99400 (EUR); Case/Package: SOT-23; Number of Pins: 3; Min Operating Temperature: -40°C; Max Operating Temperature: 125°C; Package Quantity: 1; Packaging: Tape and Reel; Termination: SMD/SMT; Output Voltage: 2.5V; Min Output Voltage: 2.5V; Output Current: 5mA; Operating Supply Current: 70uA; Quiescent Current: 70uA; Max Output Voltage: 2.5V; Reference Voltage: 2.5V; Output Type: Fixed; Length: 3.04mm; Width: 1.4mm; Height: 1.02mm; Radiation Hardening: No; Lead Free: Contains Lead; REACH SVHC: No SVHC; ComponentLink1URL: https://datasheet.ciiva.com/3235/ad1582-1583-1584-1585-3235670.pdf?src-supplier=Avnet; ComponentLink1Description: https://datasheet.ciiva.com/3235/ad1582-1583-1584-1585-3235670.pdf?src-supplier=Avnet; ComponentLink2URL: https://datasheet.ciiva.com/6591/ad1582-1583-1584-1585-6591880.pdf?src-supplier=Digi-Key; ComponentLink2Description: https://datasheet.ciiva.com/6591/ad1582-1583-1584-1585-6591880.pdf?src-supplier=Digi-Key; ComponentLink3URL: https://datasheet.ciiva.com/1172/1780773-1172378.pdf?src-supplier=Element14; ComponentLink3Description: https://datasheet.ciiva.com/1172/1780773-1172378.pdf?src-supplier=Element14; ComponentLink4URL: https://datasheet.ciiva.com/25906/ad1582-1583-1584-1585-25906570.pdf?src-supplier=Avnet+Europe; ComponentLink4Description: https://datasheet.ciiva.com/25906/ad1582-1583-1584-1585-25906570.pdf?src-supplier=Avnet+Europe; ComponentLink5URL: https://datasheet.ciiva.com/22697/1780773-22697068.pdf?src-supplier=Element14; ComponentLink5Description: https://datasheet.ciiva.com/22697/1780773-22697068.pdf?src-supplier=Element14; ComponentLink6URL: https://datasheet.ciiva.com/3236/ad1582-1583-1584-1585-3236575.pdf?src-supplier=Avnet; ComponentLink6Description: https://datasheet.ciiva.com/3236/ad1582-1583-1584-1585-3236575.pdf?src-supplier=Avnet; Supplier Part Number 1: 1660954
footprint AD1582ARTZ_SOT23
pins: 1 OUT (power), 2 GND (power), 3 IN (power)

## IC_AD5262BRUZ20
designator IC?, comment AD5262BRUZ20
ANALOG DEVICES   AD5262BRUZ20..   IC, 8-BIT DIGITAL POT; Resistance: 20kR; Memory Type: Volatile; Number of Positions: 256; Tolerance: 30%; Nominal Supply Current: 25uA; Max Supply Voltage: 16.5V; Min Supply Voltage: 4.5V; Interface: SPI; Operating Supply Voltage: 15V; Dual Supply Voltage: 5V; Max Dual Supply Voltage: 5.5V; Number of Circuits: 2; Temperature Coefficient: 35ppm/°C; Max Supply Current: 1uA; Frequency: 25MHz; -3db Bandwidth: 310kHz; Supplier 1: Mouser; Manufacturer: Analog Devices; Manufacturer Part Number: AD5262BRUZ20; RoHS: Yes; Category: Amplifiers - Op Amps, Buffer, Instrumentation; Stock 1: 1035; Mount: Surface Mount; Case/Package: TSSOP; Number of Pins: 16; Contact Plating: Tin,Matte; Min Operating Temperature: -40°C; Max Operating Temperature: 85°C; Packaging: Rail/Tube; Package Quantity: 96; Min Dual Supply Voltage: 4.5V; Operating Supply Current: 25uA; Taper: Linear; Number of Taps: 256; Number of Elements: 2; Supply Current: 25uA; Series: -; Resistance Tolerance: 30%; Length: 5mm; Width: 4.4mm; Height: 1.05mm; Radiation Hardening: No; Lead Free: Contains Lead; RoHS Compliant: Yes; REACH SVHC: No SVHC; ComponentLink1URL: https://datasheet.ciiva.com/24021/ad5260-5262-246472-24021920.pdf?src-supplier=Mouser; ComponentLink1Description: https://datasheet.ciiva.com/24021/ad5260-5262-246472-24021920.pdf?src-supplier=Mouser; ComponentLink2URL: https://datasheet.ciiva.com/26801/ad5262bruz20-26801861.pdf?src-supplier=IIIC; ComponentLink2Description: https://datasheet.ciiva.com/26801/ad5262bruz20-26801861.pdf?src-supplier=IIIC; ComponentLink3URL: https://datasheet.ciiva.com/1331/ad5260-5262-1331013.pdf?src-supplier=Digi-Key; ComponentLink3Description: https://datasheet.ciiva.com/1331/ad5260-5262-1331013.pdf?src-supplier=Digi-Key; ComponentLink4URL: https://datasheet.ciiva.com/3045/ad5260-5262-3045383.pdf?src-supplier=Avnet; ComponentLink4Description: https://datasheet.ciiva.com/3045/ad5260-5262-3045383.pdf?src-supplier=Avnet; ComponentLink5URL: https://datasheet.ciiva.com/25918/ad5260-5262-25918519.pdf?src-supplier=Avnet+Europe; ComponentLink5Description: https://datasheet.ciiva.com/25918/ad5260-5262-25918519.pdf?src-supplier=Avnet+Europe; ComponentLink6URL: https://datasheet.ciiva.com/15145/getdatasheetpartid-144444-15145740.pdf?src-supplier=Verical; ComponentLink6Description: https://datasheet.ciiva.com/15145/getdatasheetpartid-144444-15145740.pdf?src-supplier=Verical; ComponentLink7URL: https://datasheet.ciiva.com/28480/686036-28480300.pdf?src-supplier=Element14; ComponentLink7Description: https://datasheet.ciiva.com/28480/686036-28480300.pdf?src-supplier=Element14; ComponentLink8URL: https://datasheet.ciiva.com/1145/686036-1145615.pdf?src-supplier=Element14; ComponentLink8Description: https://datasheet.ciiva.com/1145/686036-1145615.pdf?src-supplier=Element14; Supplier Part Number 1: 584-AD5262BRUZ20
footprint AD5262_TSSOP16 (TSSOP16)
pins: 1 SDO "Supply Voltage for Isolator Side 1.", 2 A1 "Ground 1. Ground reference for Isolator Side 1.", 3 W1 "Logic Input A.", 4 B1 "Logic Input B.", 5 Vdd "Logic Input C.", 6 ~{SHDN} "No Connect.", 7 CLK "No Connect.", 8 SDI "Ground 1. Ground reference for Isolator Side 1.", 9 ~{CS} "Ground 2. Ground reference for Isolator Side 2.", 10 ~{PR} "Output Enable 2. Active high logic input. VOA, VOB, and VOC outputs are enabled when VE2 is high or disconnected. VOA, VOB, and VOC outputs are disabled when VE2 is low. In noisy environments, connecting VE2 to an external (See Datasheet)", 11 GND "No Connect.", 12 Vss "Logic Output C.", 13 VL "Logic Output B.", 14 B2 "Logic Output A.", 15 W2 "Ground 2. Ground reference for Isolator Side 2.", 16 A2 "Supply Voltage for Isolator Side 2."

## IC_AD5680BRJZ-2REEL7
designator IC?, comment AD5680BRJZ
IC DAC 18BIT 5V SOT23-8; Manufacturer: Analog Devices; Manufacturer Part Number: AD5680BRJZ-2REEL7; Settling Time: 85us; Resolution: 18b; Conversion Rate: 12.5KS/s; Integral Nonlinearity (INL): 64LSB; Output Type: Voltage; Number of DAC Channels: 1; Interface: SPI,Serial,3-WIRE; Min Supply Voltage: 4.5V; Max Supply Voltage: 5.5V; Max Power Dissipation: 2.25mW; Number of Bits: 18; Differential Output: No; Nominal Supply Current: 325uA; Power Dissipation: 2.5mW; Polarity: Unipolar; Supplier 1: Farnell; RoHS: Yes; Category: Digital to Analog Converters (DACs); Stock 1: 510; Pricing 1: 1=8,43000, 10=6,67000, 25=6,37000, 50=6,17000, 100=5,28000, 250=4,82000, 500=4,50000 (EUR); Case/Package: SOT-23-8; Number of Pins: 8; Contact Plating: Tin,Matte; Min Operating Temperature: -40°C; Max Operating Temperature: 105°C; Package Quantity: 1; Number of Channels: 1; Operating Supply Voltage: 5V; Packaging: Tape and Reel; Number of D/A Converters: 1; Number of Converters: 1; Sampling Rate: 12.5KS/s; Output Polarity: Unipolar; Series: nanoDAC®; Supply Current: 325uA; REACH SVHC: No SVHC; Lead Free: Contains Lead; RoHS Compliant: Yes; ComponentLink1URL: https://datasheet.ciiva.com/22658/1806166-22658750.pdf?src-supplier=Element14; ComponentLink1Description: https://datasheet.ciiva.com/22658/1806166-22658750.pdf?src-supplier=Element14; ComponentLink2URL: https://datasheet.ciiva.com/6665/ad5680-6665718.pdf?src-supplier=Digi-Key; ComponentLink2Description: https://datasheet.ciiva.com/6665/ad5680-6665718.pdf?src-supplier=Digi-Key; ComponentLink3URL: https://datasheet.ciiva.com/16599/ad5680-16599309.pdf?src-supplier=Avnet+Europe; ComponentLink3Description: https://datasheet.ciiva.com/16599/ad5680-16599309.pdf?src-supplier=Avnet+Europe; ComponentLink4URL: https://datasheet.ciiva.com/1360/ad5680-1360910.pdf?src-supplier=Digi-Key; ComponentLink4Description: https://datasheet.ciiva.com/1360/ad5680-1360910.pdf?src-supplier=Digi-Key; ComponentLink5URL: https://datasheet.ciiva.com/1360/ad5680-1360911.pdf?src-supplier=Digi-Key; ComponentLink5Description: https://datasheet.ciiva.com/1360/ad5680-1360911.pdf?src-supplier=Digi-Key; Supplier Part Number 1: 2727375
footprint AD5680_SOT23-8 (SOP, 8-Leads, Body 2.9x1.6mm, Pitch 0.65mm, IPC High Density)
pins: 1 VDD (power) "Power Supply Input. The part can be operated from 4.5 V to 5.5 V. VDD should be decoupled to GND.", 2 VREF (in) "Reference Voltage Input.", 3 VFB (in) "Feedback Connection for the Output Amplifier. VFB should be connected to VOUT for normal operation.", 4 VOUT (out) "Analog Output Voltage from DAC. The output amplifier has rail-to-rail operation.", 5 ~{SYNC} "Level-Triggered Control Input (Active Low). This is the frame synchronization signal for the input data. When S\Y\N\C\ goes low, it enables the input shift register and data is transferred in on the falling edges of the (See Datasheet)", 6 SCLK "Serial Clock Input. Data is clocked into the input shift register on the falling edge of the serial clock input. Data can be transferred at rates up to 30 MHz.", 7 DIN "Serial Data Input. This device has a 24-bit shift register. Data is clocked into the register on the falling edge of the serial clock input.", 8 GND (power) "Ground. Ground reference point for all circuitry on the part."

## IC_AD7415ARTZ-0500RL7
designator IC?, comment AD7415ARTZ-0500RL7
SENSOR DIGITAL -40C-125C SOT23-5; Manufacturer: Analog Devices; Interface: I2C,Serial,2-Wire; Resolution: 10b; Min Supply Voltage: 2.7V; Max Supply Voltage: 5.5V; Nominal Supply Current: 900uA; Number of Channels: 1; Sampling Rate: 1.25S/s; Number of Bits: 10; Voltage: 5V; Supplier 1: Mouser; Manufacturer Part Number: AD7415ARTZ-0500RL7; RoHS: Yes; Category: Amplifiers - Op Amps, Buffer, Instrumentation; Pricing 1: 1=2,26000, 10=2,03000, 25=1,92000, 100=1,58000, 250=1,41000, 500=1,36000, 1000=1,14000, 2500=1,11000, 1=2,67000, 10=2,40000, 25=2,27000, 100=1,86000, 250=1,67000, 500=1,61000 (EUR); Case/Package: SOT-23; Number of Pins: 5; Min Operating Temperature: -40°C; Max Operating Temperature: 125°C; Output Type: Digital; Package Quantity: 500; Packaging: Tape and Reel; Operating Supply Current: 900uA; Length: 2.9mm; Height: 1.15mm; Width: 1.6mm; Radiation Hardening: No; Lead Free: Contains Lead; REACH SVHC: No SVHC; ComponentLink1URL: https://datasheet.ciiva.com/15098/getdatasheetpartid-77160-15098163.pdf?src-supplier=Verical; ComponentLink1Description: https://datasheet.ciiva.com/15098/getdatasheetpartid-77160-15098163.pdf?src-supplier=Verical; ComponentLink2URL: https://datasheet.ciiva.com/1514/750934-1514163.pdf?src-supplier=Element14; ComponentLink2Description: https://datasheet.ciiva.com/1514/750934-1514163.pdf?src-supplier=Element14; ComponentLink3URL: https://datasheet.ciiva.com/1165/750934-1165271.pdf?src-supplier=Element14; ComponentLink3Description: https://datasheet.ciiva.com/1165/750934-1165271.pdf?src-supplier=Element14; ComponentLink4URL: https://datasheet.ciiva.com/25912/ad7414-7415-25912327.pdf?src-supplier=Avnet+Europe; ComponentLink4Description: https://datasheet.ciiva.com/25912/ad7414-7415-25912327.pdf?src-supplier=Avnet+Europe; ComponentLink5URL: https://datasheet.ciiva.com/22710/750934-22710761.pdf?src-supplier=Element14; ComponentLink5Description: https://datasheet.ciiva.com/22710/750934-22710761.pdf?src-supplier=Element14; ComponentLink6URL: https://datasheet.ciiva.com/2002/ad7414-7415-2002907.pdf?src-supplier=Digi-Key; ComponentLink6Description: https://datasheet.ciiva.com/2002/ad7414-7415-2002907.pdf?src-supplier=Digi-Key; ComponentLink7URL: https://datasheet.ciiva.com/2002/ad7414-7415-2002908.pdf?src-supplier=Digi-Key; ComponentLink7Description: https://datasheet.ciiva.com/2002/ad7414-7415-2002908.pdf?src-supplier=Digi-Key; ComponentLink8URL: https://datasheet.ciiva.com/2002/ad7414-7415-2002909.pdf?src-supplier=Digi-Key; ComponentLink8Description: https://datasheet.ciiva.com/2002/ad7414-7415-2002909.pdf?src-supplier=Digi-Key; ComponentLink9URL: https://datasheet.ciiva.com/3277/ad7414-7415-3277837.pdf?src-supplier=Avnet; ComponentLink9Description: https://datasheet.ciiva.com/3277/ad7414-7415-3277837.pdf?src-supplier=Avnet; ComponentLink10URL: https://datasheet.ciiva.com/3277/ad7414-7415-3277838.pdf?src-supplier=Avnet; ComponentLink10Description: https://datasheet.ciiva.com/3277/ad7414-7415-3277838.pdf?src-supplier=Avnet; Supplier Part Number 1: 584-AD7415ARTZ0500R7
footprint AD7415_SOT23 (SOT-23, 5-Leads, Body 2.9x1.6mm, Pitch 0.95mm, IPC High Density)
pins: 1 AS (in) "Logic Input. Address select input that selects one of three I2C addresses for the AD7414/AD7415 (see Table 4). Recommend a pull-up or pull-down resistor of 1 k ohm.", 2 GND (power) "Analog and Digital Ground.", 3 VDD (power) "Positive Supply Voltage, 2.7 V to 5.5 V.", 4 SCL (in) "Digital Input. Serial bus clock.", 5 SDA (io) "Digital I/O. Serial bus bidirectional data. Open-drain output."
text: °C / °F

## IC_AD7788ARMZ
designator IC?, comment AD7788ARMZ
Single ADC Delta-Sigma 16.6sps 16-bit Serial 10-Pin MSOP Tube; Manufacturer: Analog Devices; Sampling Rate: 16.6S/s; Resolution: 16b; Polarity: Bipolar; Number of Analog Inputs: 1; Max Supply Voltage: 5.25V; Min Supply Voltage: 2.7V; Max Power Dissipation: 400uW; Interface: SPI; Number of Bits: 16; Power Dissipation: 225uW; Min Input Voltage: 100mV; Nominal Supply Current: 80uA; Input Type: DIFFERENTIAL; Supplier 1: Farnell; Manufacturer Part Number: AD7788ARMZ; RoHS: Yes; Category: Analog to Digital Converters (ADCs); Pricing 1: 1=5,44000, 10=4,37000, 25=3,95000, 50=3,77000, 100=3,61000, 250=3,26000, 500=3,02000 (EUR); Case/Package: MSOP; Number of Pins: 10; Contact Plating: Tin,Matte; Min Operating Temperature: -40°C; Max Operating Temperature: 105°C; Package Quantity: 50; Number of Channels: 1; Packaging: Rail/Tube; Number of Converters: 1; Max Input Voltage: 5.25V; Number of Inputs: 1; Number of A/D Converters: 1; Number of Elements: 1; Supply Type: Single; Series: -; Supply Current: 80uA; Length: 3mm; Width: 3mm; Height: 0.85mm; Lead Free: Contains Lead; REACH SVHC: No SVHC; RoHS Compliant: Yes; ComponentLink1URL: https://datasheet.ciiva.com/22639/214611-22639604.pdf?src-supplier=Element14; ComponentLink1Description: https://datasheet.ciiva.com/22639/214611-22639604.pdf?src-supplier=Element14; ComponentLink2URL: https://datasheet.ciiva.com/5703/ad7788-7789-5703126.pdf?src-supplier=Farnell; ComponentLink2Description: https://datasheet.ciiva.com/5703/ad7788-7789-5703126.pdf?src-supplier=Farnell; ComponentLink3URL: https://datasheet.ciiva.com/16613/ad7788-7789-16613766.pdf?src-supplier=Avnet+Europe; ComponentLink3Description: https://datasheet.ciiva.com/16613/ad7788-7789-16613766.pdf?src-supplier=Avnet+Europe; ComponentLink4URL: https://datasheet.ciiva.com/3039/ad7788-7789-3039495.pdf?src-supplier=Avnet; ComponentLink4Description: https://datasheet.ciiva.com/3039/ad7788-7789-3039495.pdf?src-supplier=Avnet; Supplier Part Number 1: 2305565
footprint AD7788_MSOP (TSSOP, 10-Leads, Body 3x3mm, Pitch 0.5mm, IPC High Density)
pins: 1 SCLK (in) "Serial Clock Input for Data Transfers to and from the ADC. The SCLK has a Schmitt-triggered input, making the interface suitable for opto-isolated applications. The serial clock can be continuous, with all data transmitted (See Datasheet)", 2 ~{CS} (in) "Chip Select Input. This is an active low logic input used to select the ADC. C\S\can be used to select the ADC in systems with more than one device on the serial bus or as a frame synchronization signal in communicating with (See Datasheet)", 3 AIN(+) (in) "Analog Input. AIN(+) is the positive terminal of the fully differential analog input.", 4 AIN(-) (in) "Analog Input. AIN(-) is the negative terminal of the fully differential analog input.", 5 REFIN(+) (in) "Positive Reference Input. REFIN(+) can lie anywhere between VDD and GND + 0.1 V. The nominal reference voltage (REFIN(+) - REFIN(-)) is 2.5 V, but the part functions with a reference from 0.1 V to VDD.", 6 REFIN(-) (in) "Negative Reference Input. This reference input can lie anywhere between GND and VDD - 0.1 V.", 7 GND (power) "Ground Reference Point.", 8 VDD (power) "Supply Voltage. 3 V or 5 V nominal.", 9 DOUT/~{RDY} (hiz) "The DOUT/R\D\Y\ falling edge can be used as an interrupt to a processor, indicating that valid data is available. With an external serial clock, the data can be read using the DOUT/R\D\Y\ pin. With C\S\ low, the data/control (See Datasheet)", 10 DIN (in) "Serial Data Input to the Input Shift Register on the ADC. Data in this shift register is transferred to the control registers within the ADC; the register selection bits of the communications register identify the (See Datasheet)"